# Altium footprint library C2Sv0.1.PcbLib: 26 footprints (part 1 of 2)
Each footprint in its own frame and in the unit in brackets; x right, y up, seen from the top. Pads: shape width x height; smd on the part's side, far side on the other; paste and mask are expansions set on the pad; w line width, h text height; cw(c..) or ccw(c..) is an arc to the next point about the centre after c.
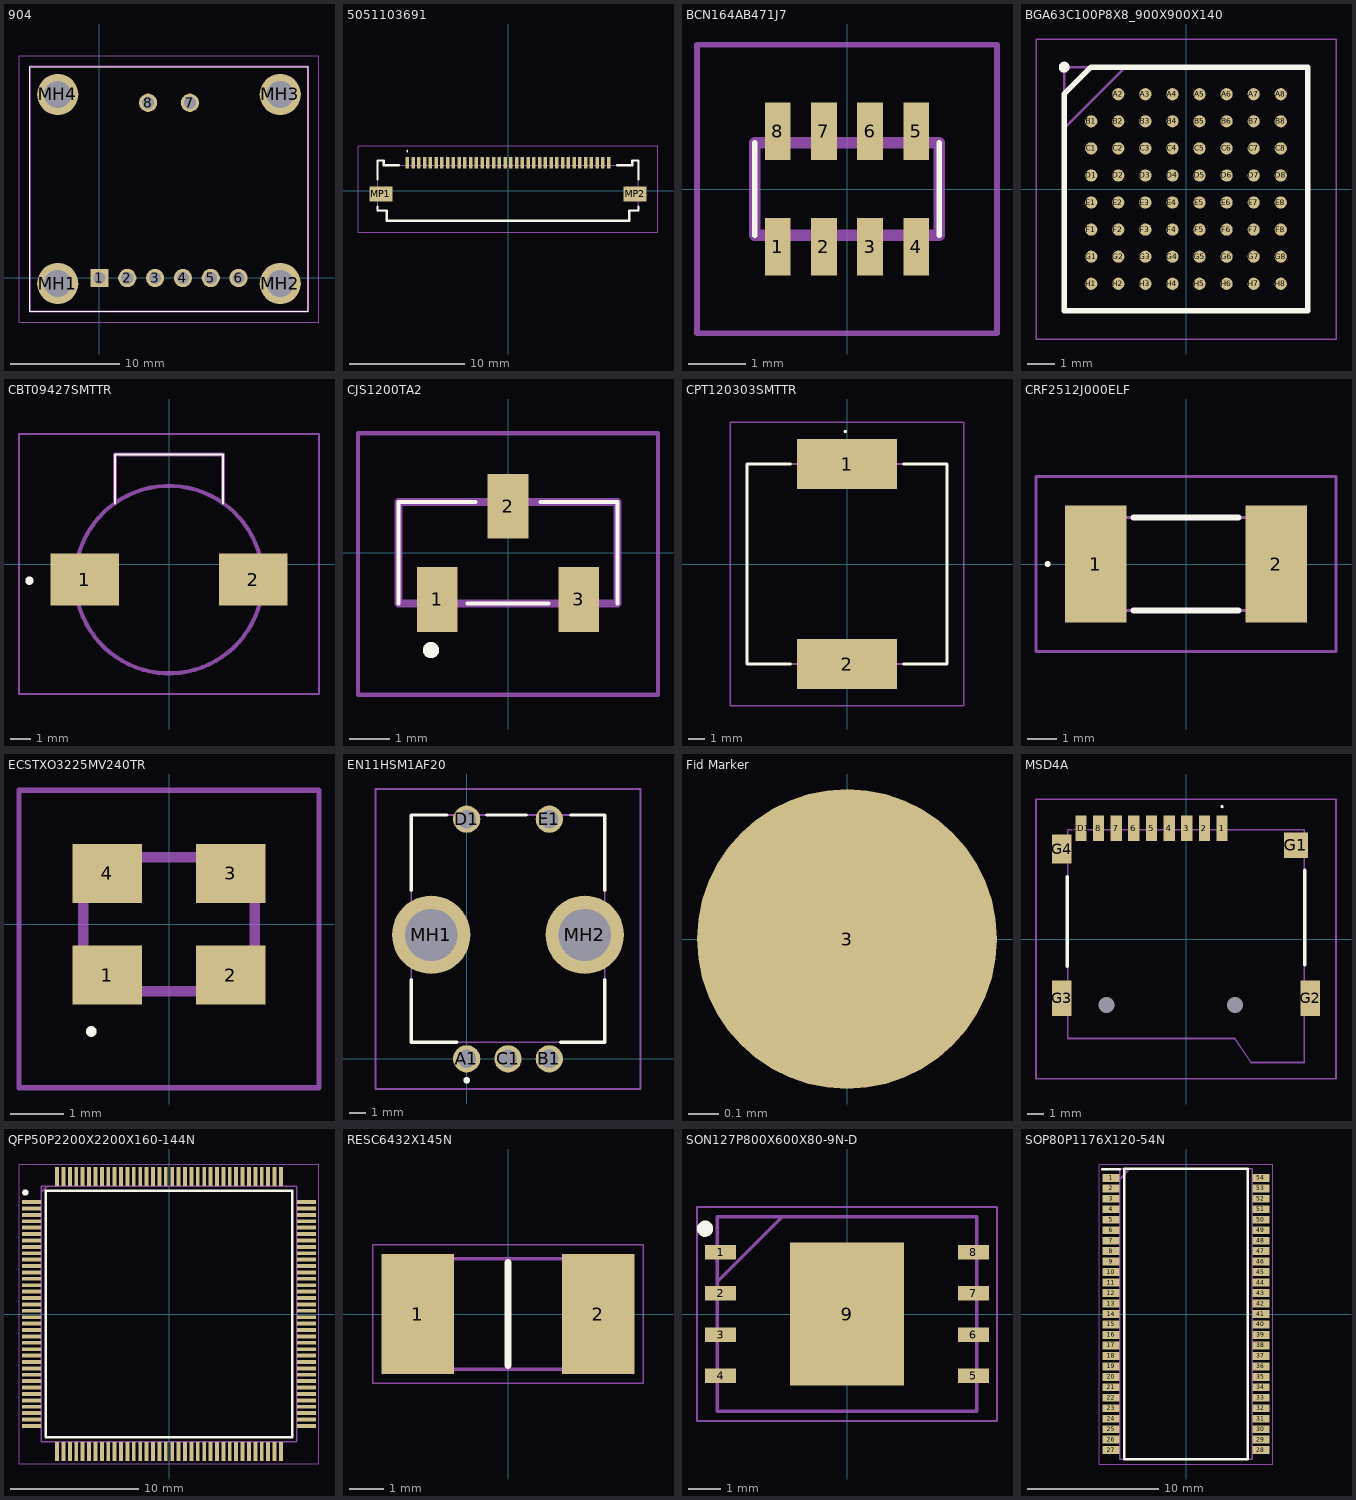
[diagram p0: the footprints below, top view; thin cyan lines are the x and y axes]

## 904 [mm]
pads (12):
  rect 1.665x1.665 hole 1.11: 1(0,0)
  round 1.665 hole 1.11: 2(2.54,0) 3(5.08,0) 4(7.62,0) 5(10.16,0) 6(12.7,0) 7(8.255,16.002) 8(4.445,16.002)
  round 3.75 hole 2.5: MH1(-3.81,-0.508) MH2(16.51,-0.508) MH3(16.51,16.764) MH4(-3.81,16.764)
Top Overlay:
  lines w0.1: -6.35,-3.048 19.05,-3.048 19.05,19.304 -6.35,19.304 -6.35,-3.048
Mechanical 13:
  lines w0.2: -6.35,-3.048 19.05,-3.048 19.05,19.304 -6.35,19.304 -6.35,-3.048
Mechanical 15:
  lines w0.1: -7.35,-4.048 20.05,-4.048 20.05,20.304 -7.35,20.304 -7.35,-4.048
3D body "904.stp": height 5.1, standoff -5, extent -6.35,-3.048 19.05,19.304

## 5051103691 [mm]
pads (38):
  rect 0.3x1 smd mask+0.051: 1(-8.75,2.425) 2(-8.25,2.425) 3(-7.75,2.425) 4(-7.25,2.425) 5(-6.75,2.425) 6(-6.25,2.425) 7(-5.75,2.425) 8(-5.25,2.425) 9(-4.75,2.425) 10(-4.25,2.425) 11(-3.75,2.425) 12(-3.25,2.425) 13(-2.75,2.425) 14(-2.25,2.425) 15(-1.75,2.425) 16(-1.25,2.425) 17(-0.75,2.425) 18(-0.25,2.425) 19(0.25,2.425) 20(0.75,2.425) 21(1.25,2.425) 22(1.75,2.425) 23(2.25,2.425) 24(2.75,2.425) 25(3.25,2.425) 26(3.75,2.425) 27(4.25,2.425) 28(4.75,2.425) 29(5.25,2.425) 30(5.75,2.425) 31(6.25,2.425) 32(6.75,2.425) 33(7.25,2.425) 34(7.75,2.425) 35(8.25,2.425) 36(8.75,2.425)
  rect 2x1.3 smd: MP1(-11.05,-0.275) MP2(11.05,-0.275)
Top Overlay:
  lines w0.1: -8.75,3.4 ccw(c-8.75,3.45) -8.75,3.5 ccw(c-8.75,3.45) -8.75,3.4
  lines w0.2: -11.35,-1.4 -11.35,-1.725 -10.55,-1.725 -10.55,-2.625 10.55,-2.625 10.55,-1.725 11.35,-1.725 11.35,-1.4 ; -11.35,1 -11.35,2.625 -10.8,2.625 -10.8,2.225 -9.5,2.225 ; 9.5,2.225 10.8,2.225 10.8,2.625 11.35,2.625 11.35,1
Mechanical 13:
  lines w0.1: -11.35,-1.725 -11.35,2.625 -10.8,2.625 -10.8,2.225 10.8,2.225 10.8,2.625 11.35,2.625 11.35,-1.725 10.55,-1.725 10.55,-2.625 0,-2.625 -10.55,-2.625 -10.55,-1.725 -11.35,-1.725
Mechanical 15:
  lines w0.1: -13.05,-3.625 13.05,-3.625 13.05,3.925 -13.05,3.925 -13.05,-3.625
3D body "505110-3691.stp": height 1.9, standoff 0, extent -11.75,-2.65 11.75,2.65

## BCN164AB471J7 [mm]
pads (8):
  rect 0.45x1 smd: 1(-1.2,-1) 2(-0.4,-1) 3(0.4,-1) 4(1.2,-1) 5(1.2,1) 6(0.4,1) 7(-0.4,1) 8(-1.2,1)
Top Overlay:
  lines w0.1: -1.6,-0.8 -1.6,0.8 ; 1.6,-0.8 1.6,0.8
Mechanical 13:
  lines w0.2: -1.6,-0.8 -1.6,0.8 1.6,0.8 1.6,-0.8 -1.6,-0.8
Mechanical 15:
  lines w0.1: -2.6,-2.5 -2.6,2.5 2.6,2.5 2.6,-2.5 -2.6,-2.5
3D body "BCN164AB471J7.stp": height 0.7, standoff 0, extent -1.6,-1.455 1.6,1.455

## BGA63C100P8X8_900X900X140 [mm]
pads (63):
  round 0.45 smd: A2(-2.5,3.5) A3(-1.5,3.5) A4(-0.5,3.5) A5(0.5,3.5) A6(1.5,3.5) A7(2.5,3.5) A8(3.5,3.5) B1(-3.5,2.5) B2(-2.5,2.5) B3(-1.5,2.5) B4(-0.5,2.5) B5(0.5,2.5) B6(1.5,2.5) B7(2.5,2.5) B8(3.5,2.5) C1(-3.5,1.5) C2(-2.5,1.5) C3(-1.5,1.5) C4(-0.5,1.5) C5(0.5,1.5) C6(1.5,1.5) C7(2.5,1.5) C8(3.5,1.5) D1(-3.5,0.5) D2(-2.5,0.5) D3(-1.5,0.5) D4(-0.5,0.5) D5(0.5,0.5) D6(1.5,0.5) D7(2.5,0.5) D8(3.5,0.5) E1(-3.5,-0.5) E2(-2.5,-0.5) E3(-1.5,-0.5) E4(-0.5,-0.5) E5(0.5,-0.5) E6(1.5,-0.5) E7(2.5,-0.5) E8(3.5,-0.5) F1(-3.5,-1.5) F2(-2.5,-1.5) F3(-1.5,-1.5) F4(-0.5,-1.5) F5(0.5,-1.5) F6(1.5,-1.5) F7(2.5,-1.5) F8(3.5,-1.5) G1(-3.5,-2.5) G2(-2.5,-2.5) G3(-1.5,-2.5) G4(-0.5,-2.5) G5(0.5,-2.5) G6(1.5,-2.5) G7(2.5,-2.5) G8(3.5,-2.5) H1(-3.5,-3.5) H2(-2.5,-3.5) H3(-1.5,-3.5) H4(-0.5,-3.5) H5(0.5,-3.5) H6(1.5,-3.5) H7(2.5,-3.5) H8(3.5,-3.5)
Top Overlay:
  circle w0.2: c-4.5,4.5 r0.1
  lines w0.2: -4.5,-4.5 -4.5,3.5 -3.5,4.5 4.5,4.5 4.5,-4.5 -4.5,-4.5
Mechanical 13:
  lines w0.1: -4.5,2.23 -2.23,4.5 ; -4.5,-4.5 -4.5,4.5 4.5,4.5 4.5,-4.5 -4.5,-4.5
Mechanical 15:
  lines w0.05: -5.54,-5.54 -5.54,5.54 5.54,5.54 5.54,-5.54 -5.54,-5.54
3D body "AR0141IRSH00SUEA0-DR.stp": height 1.4, standoff 0, extent -4.5,-4.5 4.5,4.5

## CBT09427SMTTR [mm]
pads (2):
  rect 3.3x2.5 smd: 1(-4.05,-0.75) 2(4.05,-0.75)
Top Overlay:
  lines w0.1: -2.6,2.9 -2.6,5.25 2.6,5.25 2.6,2.9
  lines w0.2: -6.8,-0.8 cw(c-6.7,-0.8) -6.6,-0.8 cw(c-6.7,-0.8) -6.8,-0.8
Mechanical 13:
  lines w0.2: -2.6,2.9 -2.6,5.25 2.6,5.25 2.6,2.9 ; -4.5,-0.75 ccw(c0,-0.75) 4.5,-0.75 ccw(c0,-0.75) -4.5,-0.75
Mechanical 15:
  lines w0.1: -7.2,-6.25 7.2,-6.25 7.2,6.25 -7.2,6.25 -7.2,-6.25
3D body "CBT-09427-SMT-TR.stp": height 2.9, standoff 0, extent -5.14,-5.35 5.36,5.15

## CJS1200TA2 [mm]
pads (3):
  rect 1x1.6 smd: 1(-1.75,-1.15) 2(0,1.15) 3(1.75,-1.15)
Top Overlay:
  lines w0.1: -2.7,-1.25 -2.7,1.25 -0.8,1.25 ; -1,-1.25 1,-1.25 ; 0.8,1.25 2.7,1.25 2.7,-1.25
  lines w0.2: -2,-2.4 ccw(c-1.9,-2.4) -1.8,-2.4 ccw(c-1.9,-2.4) -2,-2.4
Mechanical 13:
  lines w0.2: -2.7,-1.25 2.7,-1.25 2.7,1.25 -2.7,1.25 -2.7,-1.25
Mechanical 15:
  lines w0.1: -3.7,-3.5 3.7,-3.5 3.7,2.95 -3.7,2.95 -3.7,-3.5
3D body "CJS-1200TA2.stp": height 2.52, standoff 0, extent -2.7,-1.4 2.7,1.4

## CPT120303SMTTR [mm]
pads (2):
  rect 6x3 smd: 1(0,6) 2(0,-6)
Top Overlay:
  lines w0.1: -0.1,7.9 ccw(c-0.1,7.95) -0.1,8 ccw(c-0.1,7.95) -0.1,7.9
  lines w0.2: -3.4,-6 -6,-6 -6,6 -3.4,6 ; 3.4,-6 6,-6 6,6 3.4,6
Mechanical 13:
  lines w0.1: -6,-6 6,-6 6,6 -6,6 -6,-6
Mechanical 15:
  lines w0.1: -7,-8.5 7,-8.5 7,8.5 -7,8.5 -7,-8.5
3D body "CPT-1203-03-SMT-TR.stp": height 3.51, standoff 0, extent -6.25,-6.26 6.25,6.26

## CRF2512J000ELF [mm]
pads (2):
  rect 2.1x4 smd: 1(-3.1,0) 2(3.1,0)
Top Overlay:
  lines w0.1: -4.8,0 cw(c-4.75,0) -4.7,0 cw(c-4.75,0) -4.8,0
  lines w0.2: -1.8,-1.6 1.8,-1.6 ; -1.8,1.6 1.8,1.6
Mechanical 13:
  lines w0.1: -3.2,-1.6 -3.2,1.6 3.2,1.6 3.2,-1.6 -3.2,-1.6
Mechanical 15:
  lines w0.1: -5.15,-3 -5.15,3 5.15,3 5.15,-3 -5.15,-3
3D body "CRF2512-J_-000ELF.stp": height 0.7, standoff 0, extent -3.25,-1.65 3.15,1.55

## ECSTXO3225MV240TR [mm]
pads (4):
  rect 1.3x1.1 smd: 1(-1.15,-0.95) 2(1.15,-0.95) 3(1.15,0.95) 4(-1.15,0.95)
Top Overlay:
  lines w0.1: -1.5,-2 ccw(c-1.45,-2) -1.4,-2 ccw(c-1.45,-2) -1.5,-2
Mechanical 13:
  lines w0.2: -1.6,-1.25 1.6,-1.25 1.6,1.25 -1.6,1.25 -1.6,-1.25
Mechanical 15:
  lines w0.1: -2.8,-3.05 2.8,-3.05 2.8,2.5 -2.8,2.5 -2.8,-3.05
3D body "ECS-TXO-3225MV-240-TR.stp": height 1.3, standoff 0, extent -1.69,-1.39 1.69,1.39

## EN11HSM1AF20 [mm]
pads (7):
  round 1.65 hole 1.1: A1(0,0) B1(5,0) C1(2.5,0) D1(0,14.5) E1(5,14.5)
  round 4.74 hole 3.16: MH1(-2.15,7.5) MH2(7.15,7.5)
Top Overlay:
  lines w0.2: -3.35,4.8 -3.35,1 -0.6,1 ; -3.35,10.2 -3.35,14.75 -1.2,14.75 ; 1.2,14.75 3.6,14.75 ; 5.7,1 8.35,1 8.35,4.8 ; 6.3,14.75 8.35,14.75 8.35,10.2 ; 0,-1.4 cw(c0,-1.3) 0,-1.2 cw(c0,-1.3) 0,-1.4
Mechanical 13:
  lines w0.1: -3.35,1 8.35,1 8.35,14.75 -3.35,14.75 -3.35,1
Mechanical 15:
  lines w0.1: -5.52,-1.825 10.52,-1.825 10.52,16.325 -5.52,16.325 -5.52,-1.825
3D body "EN11-HSM1AF20.stp": height 27.2, standoff -5, extent -3.63,-0.447 8.63,14.947

## Fid Marker [mm]
pads (1):
  round 1 smd mask+0.5: 3(0,0)

## MSD4A [mm]
pads (15):
  rect 0.7x1.6 smd: 1(2.25,6.9) 2(1.15,6.9) 3(0.05,6.9) 4(-1.05,6.9) 5(-2.15,6.9) 6(-3.25,6.9) 7(-4.35,6.9) 8(-5.45,6.9)
  rect 0.7x1.6 smd mask+0.051: CD1(-6.55,6.9)
  rect 1.5x1.6 smd: G1(6.85,5.85)
  rect 1.2x2.2 smd: G2(7.75,-3.7) G3(-7.75,-3.7)
  rect 1.2x1.8 smd mask+0.051: G4(-7.75,5.6)
  round 0.5 hole 1 unplated: MH1(3.05,-4.1) MH2(-4.95,-4.1)
Top Overlay:
  lines w0.1: 2.25,8.2 cw(c2.25,8.25) 2.25,8.3 cw(c2.25,8.25) 2.25,8.2
  lines w0.2: -7.4,-1.7 -7.4,3.9 ; 7.4,-1.6 7.4,4.3
Mechanical 13:
  lines w0.1: -7.375,-6.2 3.05,-6.2 4.05,-7.7 7.375,-7.7 7.375,6.8 3.05,6.8 -7.375,6.8 -7.375,-6.2
Mechanical 15:
  lines w0.1: -9.35,-8.7 -9.35,8.7 9.35,8.7 9.35,-8.7 -9.35,-8.7
3D body "MSD-4-A.stp": height 1.9, standoff -0.5, extent -8.16,-7.79 7.99,7.26

## QFP50P2200X2200X160-144N [mm]
pads (144):
  rect 1.475x0.3 smd mask+0.051: 1(-10.738,8.75) 2(-10.738,8.25) 3(-10.738,7.75) 4(-10.738,7.25) 5(-10.738,6.75) 6(-10.738,6.25) 7(-10.738,5.75) 8(-10.738,5.25) 9(-10.738,4.75) 10(-10.738,4.25) 11(-10.738,3.75) 12(-10.738,3.25) 13(-10.738,2.75) 14(-10.738,2.25) 15(-10.738,1.75) 16(-10.738,1.25) 17(-10.738,0.75) 18(-10.738,0.25) 19(-10.738,-0.25) 20(-10.738,-0.75) 21(-10.738,-1.25) 22(-10.738,-1.75) 23(-10.738,-2.25) 24(-10.738,-2.75) 25(-10.738,-3.25) 26(-10.738,-3.75) 27(-10.738,-4.25) 28(-10.738,-4.75) 29(-10.738,-5.25) 30(-10.738,-5.75) 31(-10.738,-6.25) 32(-10.738,-6.75) 33(-10.738,-7.25) 34(-10.738,-7.75) 35(-10.738,-8.25) 36(-10.738,-8.75) 73(10.738,-8.75) 74(10.738,-8.25) 75(10.738,-7.75) 76(10.738,-7.25) 77(10.738,-6.75) 78(10.738,-6.25) 79(10.738,-5.75) 80(10.738,-5.25) 81(10.738,-4.75) 82(10.738,-4.25) 83(10.738,-3.75) 84(10.738,-3.25) 85(10.738,-2.75) 86(10.738,-2.25) 87(10.738,-1.75) 88(10.738,-1.25) 89(10.738,-0.75) 90(10.738,-0.25) 91(10.738,0.25) 92(10.738,0.75) 93(10.738,1.25) 94(10.738,1.75) 95(10.738,2.25) 96(10.738,2.75) 97(10.738,3.25) 98(10.738,3.75) 99(10.738,4.25) 100(10.738,4.75) 101(10.738,5.25) 102(10.738,5.75) 103(10.738,6.25) 104(10.738,6.75) 105(10.738,7.25) 106(10.738,7.75) 107(10.738,8.25) 108(10.738,8.75)
  rect 0.3x1.475 smd mask+0.051: 37(-8.75,-10.738) 38(-8.25,-10.738) 39(-7.75,-10.738) 40(-7.25,-10.738) 41(-6.75,-10.738) 42(-6.25,-10.738) 43(-5.75,-10.738) 44(-5.25,-10.738) 45(-4.75,-10.738) 46(-4.25,-10.738) 47(-3.75,-10.738) 48(-3.25,-10.738) 49(-2.75,-10.738) 50(-2.25,-10.738) 51(-1.75,-10.738) 52(-1.25,-10.738) 53(-0.75,-10.738) 54(-0.25,-10.738) 55(0.25,-10.738) 56(0.75,-10.738) 57(1.25,-10.738) 58(1.75,-10.738) 59(2.25,-10.738) 60(2.75,-10.738) 61(3.25,-10.738) 62(3.75,-10.738) 63(4.25,-10.738) 64(4.75,-10.738) 65(5.25,-10.738) 66(5.75,-10.738) 67(6.25,-10.738) 68(6.75,-10.738) 69(7.25,-10.738) 70(7.75,-10.738) 71(8.25,-10.738) 72(8.75,-10.738) 109(8.75,10.738) 110(8.25,10.738) 111(7.75,10.738) 112(7.25,10.738) 113(6.75,10.738) 114(6.25,10.738) 115(5.75,10.738) 116(5.25,10.738) 117(4.75,10.738) 118(4.25,10.738) 119(3.75,10.738) 120(3.25,10.738) 121(2.75,10.738) 122(2.25,10.738) 123(1.75,10.738) 124(1.25,10.738) 125(0.75,10.738) 126(0.25,10.738) 127(-0.25,10.738) 128(-0.75,10.738) 129(-1.25,10.738) 130(-1.75,10.738) 131(-2.25,10.738) 132(-2.75,10.738) 133(-3.25,10.738) 134(-3.75,10.738) 135(-4.25,10.738) 136(-4.75,10.738) 137(-5.25,10.738) 138(-5.75,10.738) 139(-6.25,10.738) 140(-6.75,10.738) 141(-7.25,10.738) 142(-7.75,10.738) 143(-8.25,10.738) 144(-8.75,10.738)
Top Overlay:
  circle w0.25: c-11.225,9.5 r0.125
  lines w0.2: -9.65,-9.65 -9.65,9.65 9.65,9.65 9.65,-9.65 -9.65,-9.65
Mechanical 13:
  lines w0.1: -10,9.5 -9.5,10 ; -10,-10 -10,10 10,10 10,-10 -10,-10
Mechanical 15:
  lines w0.05: -11.725,-11.725 -11.725,11.725 11.725,11.725 11.725,-11.725 -11.725,-11.725
3D body "STM32U5G9ZJT6Q.stp": height 1.6, standoff 0, extent -10.948,-10.948 10.948,10.948

## RESC6432X145N [mm]
pads (2):
  rect 2.1x3.45 smd: 1(-2.6,0) 2(2.6,0)
Top Overlay:
  lines w0.2: 0,-1.49 0,1.49
Mechanical 13:
  lines w0.1: -3.175,-1.59 -3.175,1.59 3.175,1.59 3.175,-1.59 -3.175,-1.59
Mechanical 15:
  lines w0.05: -3.9,-2 -3.9,2 3.9,2 3.9,-2 -3.9,-2
3D body "CSNL2512FT2L00.stp": height 0.35, standoff 0, extent -3.174,-1.586 3.176,1.594

## SON127P800X600X80-9N-D [mm]
pads (9):
  rect 0.95x0.45 smd: 1(-3.9,1.905) 2(-3.9,0.635) 3(-3.9,-0.635) 4(-3.9,-1.905) 5(3.9,-1.905) 6(3.9,-0.635) 7(3.9,0.635) 8(3.9,1.905)
  rect 3.5x4.4 smd: 9(0,0)
Top Overlay:
  circle w0.25: c-4.375,2.63 r0.125
Mechanical 13:
  lines w0.1: -4,1 -2,3 ; -4,-3 4,-3 4,3 -4,3 -4,-3
Mechanical 15:
  lines w0.05: -4.625,-3.3 4.625,-3.3 4.625,3.3 -4.625,3.3 -4.625,-3.3
3D body "AT25SF2561C-MWUB-T.stp": height 0.8, standoff 0, extent -4.05,-3 4.05,3

## SOP80P1176X120-54N [mm]
pads (54):
  rect 1.295x0.6 smd: 1(-5.728,10.4) 2(-5.728,9.6) 3(-5.728,8.8) 4(-5.728,8) 5(-5.728,7.2) 6(-5.728,6.4) 7(-5.728,5.6) 8(-5.728,4.8) 9(-5.728,4) 10(-5.728,3.2) 11(-5.728,2.4) 12(-5.728,1.6) 13(-5.728,0.8) 14(-5.728,0) 15(-5.728,-0.8) 16(-5.728,-1.6) 17(-5.728,-2.4) 18(-5.728,-3.2) 19(-5.728,-4) 20(-5.728,-4.8) 21(-5.728,-5.6) 22(-5.728,-6.4) 23(-5.728,-7.2) 24(-5.728,-8) 25(-5.728,-8.8) 26(-5.728,-9.6) 27(-5.728,-10.4) 28(5.728,-10.4) 29(5.728,-9.6) 30(5.728,-8.8) 31(5.728,-8) 32(5.728,-7.2) 33(5.728,-6.4) 34(5.728,-5.6) 35(5.728,-4.8) 36(5.728,-4) 37(5.728,-3.2) 38(5.728,-2.4) 39(5.728,-1.6) 40(5.728,-0.8) 41(5.728,0) 42(5.728,0.8) 43(5.728,1.6) 44(5.728,2.4) 45(5.728,3.2) 46(5.728,4) 47(5.728,4.8) 48(5.728,5.6) 49(5.728,6.4) 50(5.728,7.2) 51(5.728,8) 52(5.728,8.8) 53(5.728,9.6) 54(5.728,10.4)
Top Overlay:
  lines w0.2: -6.375,11.05 -5.08,11.05 ; -4.73,-11.11 -4.73,11.11 4.73,11.11 4.73,-11.11 -4.73,-11.11
Mechanical 13:
  lines w0.1: -5.08,10.31 -4.28,11.11 ; -5.08,-11.11 -5.08,11.11 5.08,11.11 5.08,-11.11 -5.08,-11.11
Mechanical 15:
  lines w0.05: -6.625,-11.46 -6.625,11.46 6.625,11.46 6.625,-11.46 -6.625,-11.46
3D body "IS42S16160J-6TLI.stp": height 1.2, standoff 0, extent -5.88,-11.11 5.88,11.11